# Altium schematic symbol library 796949-7.SchLib: 1 symbol
Pins are listed as number, name and electrical type; pins without a type are passive.

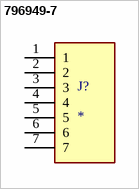
[diagram p0: symbol 796949-7]

## 796949-7
designator J?
MF: {'manufacturer': u'TE Connectivity'}; MP: 796949-7; Package: None; Price: None; Value: *; Availability: Unavailable
footprint TE_796949-7
pins: 1, 2, 3, 4, 5, 6, 7